# EAGLE library part WL-SFTD_3535 (library Eagle_WL-SFTW_rev19c)
WL-SFTD SMD Full-color Top LED Diffused Characteristics Industry standard size 3535 Matte and non-reflective surface High reliability Low energy consumtion Low current requirement MSL 5a Water-resistant IPx6 Applications Outdoor Full-Color Video Screen Decorative lighting Entertainment LED display screen Indicator Backlight <https://www.we-online.com/catalog/media/o135756v209%20Family_WL-SFTD-3535_150353M253300.jpg> Details see: https://www.we-online.com/catalog/en/WL-SFTD/ Created by Ella Wu 2018-11-26 2018 (C) Wurth Elektronik
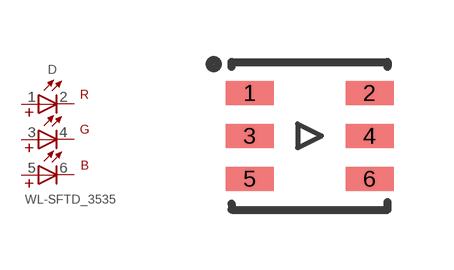
[diagram p0: symbol with the pads of WL-SFTD_3535; footprint WL-SFTD_3535]

Designator prefix D

## WL-SFTD_3535_150353M153300  [WL-SFTD_3535]
1  1  pas
2  R  pas
3  3  pas
4  G  pas
5  5  pas
6  B  pas

## Footprint WL-SFTD_3535 (pad centres in mm)
WL-SFTD SMT Full-color Top LED Diffused Size : 3535
smd 1.2 x 0.6: 1 -1.5,1.075; 2 1.5,1.075; 3 -1.5,0; 4 1.5,0; 5 -1.5,-1.075; 6 1.5,-1.075